# Altium footprint library mainLib.PcbLib: 6 footprints
Each footprint in its own frame and in the unit in brackets; x right, y up, seen from the top. Pads: shape width x height; smd on the part's side, far side on the other; paste and mask are expansions set on the pad; w line width, h text height; cw(c..) or ccw(c..) is an arc to the next point about the centre after c.
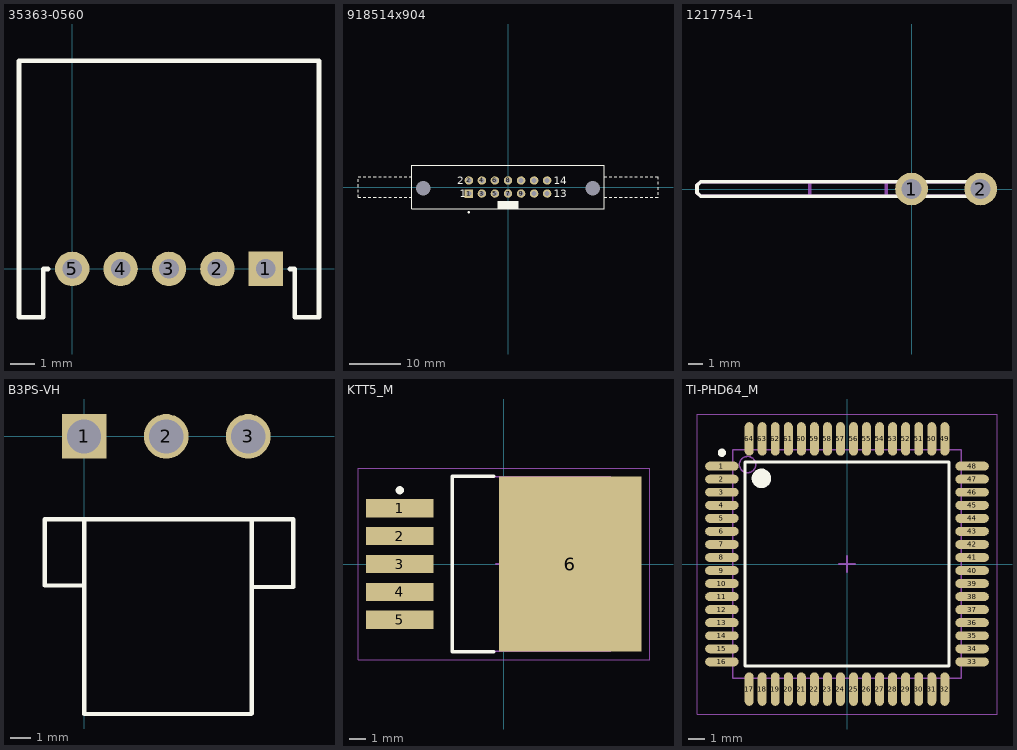
[diagram p0: the footprints below, top view; thin cyan lines are the x and y axes]

## 35363-0560 [mil]
pads (5):
  rect 56x56 / inner round 0 / far side rect 56x56 hole 32 mask+4.97: 1(314.95,0)
  round 56 / inner round 0 / far side round 56 hole 32 mask+4.97: 2(236.22,0) 3(157.47,0) 4(78.73,0) 5(0,0)
Top Overlay:
  lines w7.87: -39.37,0 -47.23,0 -47.23,-78.73 -86.6,-78.73 -86.6,338.57 0,338.57 314.93,338.57 401.58,338.57 401.58,-78.73 362.22,-78.73 362.22,0 354.35,0
3D body "353630560.stp": height 217.27, standoff -125.25, extent -84.12,-77.06 400.13,336.33

## 918514x904 [mm] "Connector; IDC, Thru-Hole; 14 Position; Vertical; Pitch 2.54 mm; Body 37.40 x 8.5 x 25.75 mm (LxWxH), Locking levers"
height 25.75
pads (16):
  rect 1.65x1.65 hole 1: 1(-7.62,-1.27)
  round 1.65 hole 1: 2(-7.62,1.27) 3(-5.08,-1.27) 4(-5.08,1.27) 5(-2.54,-1.27) 6(-2.54,1.27) 7(0,-1.27) 8(0,1.27) 9(2.54,-1.27) 10(2.54,1.27) 11(5.08,-1.27) 12(5.08,1.27) 13(7.62,-1.27) 14(7.62,1.27)
  round 2.5 hole 2.8 unplated: MH1(-16.51,-0.25) MH2(16.51,-0.25)
Top Overlay:
  circle w0.25: c-7.62,-4.9 r0.125
  rectangle: -2.05,-4.25 2.05,-2.7
  lines w0.2: -29.2,-1 -29.2,-0.5 ; -29.2,0 -29.2,0.5 ; -29.2,1 -29.2,1.5 ; -29.2,2 -28.69,2 ; -29.19,-1.5 -29.2,-2 -28.69,-2 ; -28.19,-2 -27.69,-2 ; -28.19,2 -27.69,2 ; -27.19,-2 -26.69,-2 ; -27.19,2 -26.69,2 ; -26.19,-2 -25.69,-2 ; -26.19,2 -25.69,2 ; -25.19,-2 -24.69,-2 ; -25.19,2 -24.69,2 ; -24.19,-2 -23.69,-2 ; -24.19,2 -23.69,2 ; -23.19,-2 -22.69,-2 ; -23.19,2 -22.69,2 ; -22.19,-2 -21.69,-2 ; -22.19,2 -21.69,2 ; -21.19,-2 -20.69,-2 ; -21.19,2 -20.69,2 ; -20.19,-2 -19.69,-2 ; -20.19,2 -19.69,2 ; -19.19,-2 -18.7,-2 ; -19.19,2 -18.7,2 ; 18.7,-2 19.2,-2 ; 18.7,2 19.2,2 ; 19.7,-2 20.2,-2 ; 19.7,2 20.2,2 ; 20.7,-2 21.2,-2 ; 20.7,2 21.2,2 ; 21.7,-2 22.2,-2 ; 21.7,2 22.2,2 ; 22.7,-2 23.2,-2 ; 22.7,2 23.2,2 ; 23.7,-2 24.2,-2 ; 23.7,2 24.2,2 ; 24.7,-2 25.2,-2 ; 24.7,2 25.2,2 ; 25.7,-2 26.2,-2 ; 25.7,2 26.2,2 ; 26.7,-2 27.2,-2 ; 26.7,2 27.2,2 ; 27.7,-2 28.2,-2 ; 27.7,2 28.2,2 ; 28.7,-2 29.2,-2 ; 28.7,2 29.2,2 29.2,1.5 ; 29.2,-1.5 29.2,-1 ; 29.2,-0.5 29.2,0 ; 29.2,0.5 29.2,1 ; -18.7,-4.25 -18.7,4.25 18.7,4.25 18.7,-4.25 -18.7,-4.25
  text "2" at -9.9,0.52 h1.5
  text "1" at -9.4,-2.02 h1.5
  text "14" at 8.9,0.52 h1.5
  text "13" at 8.9,-2.02 h1.5
3D body "091X514X904_100081391MOD000B.STP": height 25.8, standoff -2.85, extent -18.721,-4.258 18.679,4.242

## 1217754-1 [mil]
pads (2):
  round 90 hole 55: 1(0,0) 2(190,0)
Top Overlay:
  lines w10: -590,-10 -580,-20 210,-20 210,20 -580,20 -590,10 -590,-10
Mechanical 13:
  lines w10: -70,-20 210,-20 ; -70,-20 210,-20 ; -70,-20 -70,20 210,20 ; 210,-20 -580,-20 -590,-10 -590,10 -580,20 210,20 ; 210,-20 210,20 ; 210,-20 210,20 ; 210,-20 210,20 ; 210,-20 -280,-20 -280,20 210,20
3D body: height 250, standoff 100, extent -595,-25 215,25
3D body: height 70, standoff 0, extent -69.98,-19.98 209.98,19.98
3D body: height 100, standoff 70, extent -279.98,-19.98 -70.02,19.98
3D body: height 100, standoff 70, extent -69.98,-19.98 209.98,19.98

## B3PS-VH [mm]
pads (3):
  rect 2.158x2.158 / inner round 0 / far side rect 2.158x2.158 hole 1.65 mask+0.128: 1(0,0)
  round 2.158 / inner round 0 / far side round 2.158 hole 1.65 mask+0.128: 2(3.96,0) 3(7.92,0)
Top Overlay:
  lines w0.203: 0,-7.2 -1.9,-7.2 -1.9,-4 10.084,-4 ; 0,-4 0,-13.4 8.063,-13.4 8.09,-13.373 8.09,-4 ; 8.103,-7.264 8.752,-7.264 9.441,-7.264 10.09,-7.264 10.09,-4
3D body "B3PS-VH.STEP": height 8.5, standoff -3.6, extent -1.947,-14.912 9.873,0.558

## KTT5_M [mm] "D2-PAK, 6-Leads, Body 8.9x10.2mm, Pitch 1.7mm, Lead Span 15.2mm, IPC Low Density"
height 4.83
pads (6):
  rect 4.1x1.1 smd: 1(-6.35,3.4) 2(-6.35,1.7) 3(-6.35,0) 4(-6.35,-1.7) 5(-6.35,-3.4)
  rect 8.7x10.7 smd: 6(4.05,0)
Top Overlay:
  circle w0.25: c-6.35,4.5 r0.125
  lines w0.2: -0.6,-5.35 -3.15,-5.35 -3.15,5.35 -0.6,5.35
Mechanical 13:
  lines w0.1: -3.15,-5.325 -3.15,5.325 6.5,5.325 6.5,-5.325 -3.15,-5.325
Mechanical 15:
  lines w0.05: -8.9,-5.85 -8.9,5.85 8.9,5.85 8.9,-5.85 -8.9,-5.85
  lines w0.1: -0.5,0 0.5,0 ; 0,-0.5 0,0.5
3D body: height 4.83, standoff 0, extent -3.15,-5.325 6.5,5.325

## TI-PHD64_M [mm] "QFP, 64-Leads, Body 14x14mm, Pitch 0.8mm, IPC Low Density"
height 1.2
pads (64):
  oval 2.05x0.55 smd: 1(-7.675,6) 2(-7.675,5.2) 3(-7.675,4.4) 4(-7.675,3.6) 5(-7.675,2.8) 6(-7.675,2) 7(-7.675,1.2) 8(-7.675,0.4) 9(-7.675,-0.4) 10(-7.675,-1.2) 11(-7.675,-2) 12(-7.675,-2.8) 13(-7.675,-3.6) 14(-7.675,-4.4) 15(-7.675,-5.2) 16(-7.675,-6) 33(7.675,-6) 34(7.675,-5.2) 35(7.675,-4.4) 36(7.675,-3.6) 37(7.675,-2.8) 38(7.675,-2) 39(7.675,-1.2) 40(7.675,-0.4) 41(7.675,0.4) 42(7.675,1.2) 43(7.675,2) 44(7.675,2.8) 45(7.675,3.6) 46(7.675,4.4) 47(7.675,5.2) 48(7.675,6)
  oval 0.55x2.05 smd: 17(-6,-7.675) 18(-5.2,-7.675) 19(-4.4,-7.675) 20(-3.6,-7.675) 21(-2.8,-7.675) 22(-2,-7.675) 23(-1.2,-7.675) 24(-0.4,-7.675) 25(0.4,-7.675) 26(1.2,-7.675) 27(2,-7.675) 28(2.8,-7.675) 29(3.6,-7.675) 30(4.4,-7.675) 31(5.2,-7.675) 32(6,-7.675) 49(6,7.675) 50(5.2,7.675) 51(4.4,7.675) 52(3.6,7.675) 53(2.8,7.675) 54(2,7.675) 55(1.2,7.675) 56(0.4,7.675) 57(-0.4,7.675) 58(-1.2,7.675) 59(-2,7.675) 60(-2.8,7.675) 61(-3.6,7.675) 62(-4.4,7.675) 63(-5.2,7.675) 64(-6,7.675)
Top Overlay:
  circle w0.6: c-5.25,5.25 r0.3
  circle w0.25: c-7.675,6.825 r0.125
  lines w0.2: -6.25,-6.25 6.25,-6.25 6.25,6.25 -6.25,6.25 -6.25,-6.25
Mechanical 1:
  text "'.Designator'" at -5,-6 h1.52
Mechanical 13:
  circle w0.1: c-6.1,6.1 r0.5
  lines w0.1: -7,-7 7,-7 7,7 -7,7 -7,-7
Mechanical 15:
  lines w0.05: -9.2,-9.2 9.2,-9.2 9.2,9.2 -9.2,9.2 -9.2,-9.2
  lines w0.1: -0.5,0 0.5,0 ; 0,-0.5 0,0.5
3D body: height 1.2, standoff 0.05, extent -7,-7 7,7